# EAGLE library part M25P16 (library CC11x)
http://onecall.farnell.com/micron/m25p16-vmn6p/memory-flash-serial-16mbit-8nsoic/dp/1734973
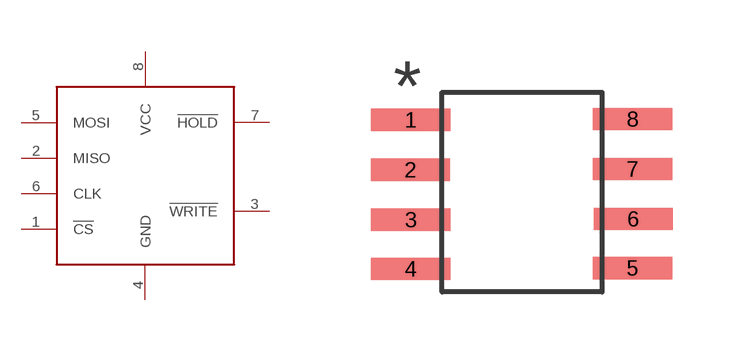
[diagram p9: symbol with the pads of SOIC8; footprint SOIC8]

Designator prefix VMN6P

## M25P16VMN6P  [SOIC8]
1  !CS  in
2  MISO  out
3  !WRITE  in
4  GND  pwr
5  MOSI  in
6  CLK  in
7  !HOLD  in
8  VCC  pwr

## Footprint SOIC8 (pad centres in mm)
smd 1.981 x 0.559: 1 -3.164,1.815; 2 -3.174,0.565; 3 -3.164,-0.685; 4 -3.164,-1.915; 5 2.384,-1.895; 6 2.404,-0.665; 7 2.384,0.585; 8 2.384,1.835